# Altium footprint library STM32F103_扩展板.PcbLib: 17 footprints (part 2 of 2)
Each footprint in its own frame and in the unit in brackets; x right, y up, seen from the top. Pads: shape width x height; smd on the part's side, far side on the other; paste and mask are expansions set on the pad; w line width, h text height; cw(c..) or ccw(c..) is an arc to the next point about the centre after c.
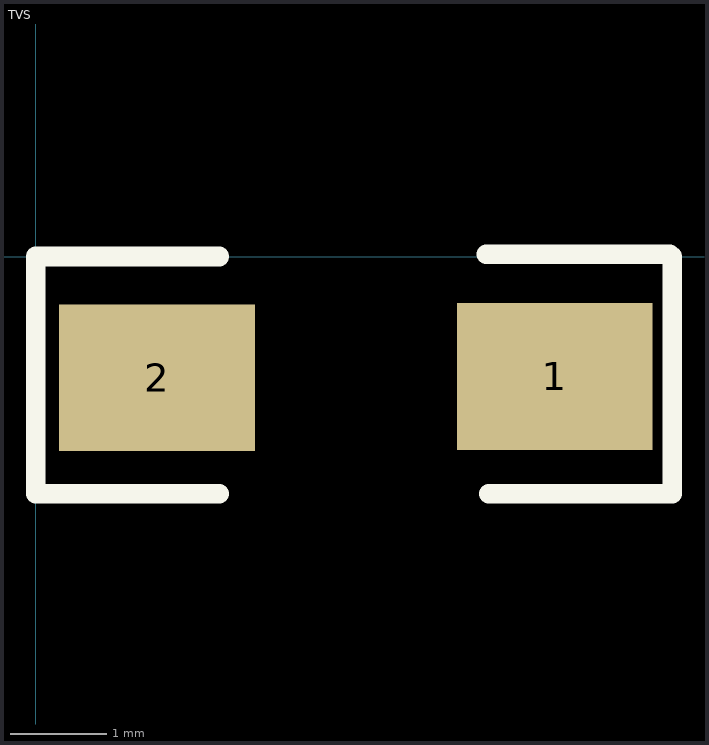
[diagram p1: the footprint, top view; thin cyan lines are the x and y axes]

## TVS [mil]
pads (2):
  rect 80x60 smd: 1(212,-49) 2(49.56,-49.51)
Top Overlay:
  lines w8: 75,-97 0,-97 0,0 75,0 ; 184,1 259,1 ; 185,-97 260,-97 260,0